# Altium schematic symbol library Resisotors.SchLib: 7 symbols
Pins are listed as number, name and electrical type; pins without a type are passive.

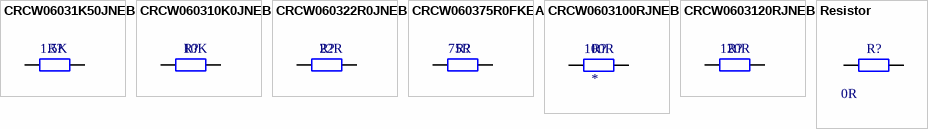
[diagram p0: symbols CRCW06031K50JNEB to Resistor]

## CRCW06031K50JNEB
designator R?  value 1.5K  (hidden comment: *)
RES 0603 1.5K 5% 100mW; Manufacturer: Vishay / Dale; Manufacturer Part Number: CRCW06031K50JNEB; Resistance: 1.5 kOhms; Temperature Coefficient: 200 PPM / K; Voltage Rating: 75 V; Qualification: Commercial; Supplier 1: Mouser; Supplier Part Number 1: 71-CRCW06031K50JNEB; RoHS: RoHS Compliant By Exemption; Category: Thick Film Resistors - SMD; Stock 1: 35392; Pricing 1: 1=0.091, 10=0.009, 100=0.007, 10000=0.003, 30000=0.002 (EUR); Height: 0.45 mm; Length: 1.55 mm; Operating Temperature Range: - 55 C to + 155 C; Package/Case: 0603 (1608 metric); Packaging: Reel; Power Rating: 100 mW; Product: Thick Film Resistors SMD; Series: CRCW; Termination Style: SMD/SMT; Tolerance: 5 %; Width: 0.85 mm; Brand: Vishay / Dale; Case Code - in: 0603; Case Code - mm: 1608; Standard Pack Qty: 10000; RoHS - Mouser: E; Minimum Order Quantity: 1; Reeling: True; ComponentLink1URL: http://www.mouser.com/ds/2/427/dcrcwe3-109170.pdf; ComponentLink1Description: http://www.mouser.com/ds/2/427/dcrcwe3-109170.pdf
footprint 0603R_0.45_L (Chip Resistor, 2-Leads, IPC Low Density)
footprint 0603R_0.45_M (Chip Resistor, 2-Leads, IPC Medium Density)
footprint 0603R_0.45_H (Chip Resistor, 2-Leads, IPC Hight Density)
pins: 1, 2

## CRCW060310K0JNEB
designator R?  value 10K  (hidden comment: *)
RES 0603 10K 5% 100mW; Manufacturer: Vishay / Dale; Manufacturer Part Number: CRCW060310K0JNEB; Resistance: 10 kOhms; Temperature Coefficient: 200 PPM / K; Voltage Rating: 75 V; Qualification: Commercial; Supplier 1: Mouser; Supplier Part Number 1: 71-CRCW060310K0JNEB; RoHS: RoHS Compliant By Exemption; Category: Thick Film Resistors - SMD; Stock 1: 23952; Pricing 1: 1=0.091, 10=0.009, 100=0.007, 10000=0.003, 30000=0.002 (EUR); Height: 0.45 mm; Length: 1.55 mm; Operating Temperature Range: - 55 C to + 155 C; Package/Case: 0603 (1608 metric); Packaging: Reel; Power Rating: 100 mW; Product: Thick Film Resistors SMD; Series: CRCW; Termination Style: SMD/SMT; Tolerance: 5 %; Width: 0.85 mm; Brand: Vishay / Dale; Case Code - in: 0603; Case Code - mm: 1608; Standard Pack Qty: 10000; RoHS - Mouser: E; Minimum Order Quantity: 1; Reeling: True; ComponentLink1URL: http://www.mouser.com/ds/2/427/dcrcwe3-109170.pdf; ComponentLink1Description: http://www.mouser.com/ds/2/427/dcrcwe3-109170.pdf
footprint 0603R_0.45_L (Chip Resistor, 2-Leads, IPC Low Density)
footprint 0603R_0.45_M (Chip Resistor, 2-Leads, IPC Medium Density)
footprint 0603R_0.45_H (Chip Resistor, 2-Leads, IPC Hight Density)
pins: 1, 2

## CRCW060322R0JNEB
designator R?  value 22R  (hidden comment: *)
RES 0603 22R 5% 100mW; Manufacturer: Vishay / Dale; Manufacturer Part Number: CRCW060322R0JNEB; Resistance: 22 Ohms; Temperature Coefficient: 200 PPM / K; Voltage Rating: 75 V; Qualification: Commercial; Supplier 1: Mouser; Supplier Part Number 1: 71-CRCW060322R0JNEB; RoHS: RoHS Compliant By Exemption; Category: Thick Film Resistors - SMD; Stock 1: 41125; Pricing 1: 1=0.091, 10=0.011, 100=0.008, 10000=0.004, 30000=0.002 (EUR); Height: 0.45 mm; Length: 1.55 mm; Operating Temperature Range: - 55 C to + 155 C; Package/Case: 0603 (1608 metric); Packaging: Reel; Power Rating: 100 mW; Product: Thick Film Resistors SMD; Series: CRCW; Termination Style: SMD/SMT; Tolerance: 5 %; Width: 0.85 mm; Brand: Vishay / Dale; Case Code - in: 0603; Case Code - mm: 1608; Standard Pack Qty: 10000; RoHS - Mouser: E; Minimum Order Quantity: 1; Reeling: True; ComponentLink1URL: http://www.mouser.com/ds/2/427/dcrcwe3-109170.pdf; ComponentLink1Description: http://www.mouser.com/ds/2/427/dcrcwe3-109170.pdf
footprint 0603R_0.45_L (Chip Resistor, 2-Leads, IPC Low Density)
footprint 0603R_0.45_M (Chip Resistor, 2-Leads, IPC Medium Density)
footprint 0603R_0.45_H (Chip Resistor, 2-Leads, IPC Hight Density)
pins: 1, 2

## CRCW060375R0FKEA
designator R?  value 75R  (hidden comment: CRCW060375R0FKEA)
RES SMD 75 OHM 1% 1/10W 0603; Manufacturer: Vishay Dale; Resistance (Ohms): 75; Power (Watts): 0.1W, 1/10W; Temperature Coefficient: ±100ppm/°C; Supplier 1: Digi-Key; Supplier Part Number 1: 541-75.0HCT-ND; Manufacturer Part Number: CRCW060375R0FKEA; RoHS: RoHS Compliant; Category: Resistors; Stock 1: 102359; Pricing 1: 1=0.1, 10=0.03, 25=0.022, 50=0.0168, 100=0.0123, 250=0.0094, 500=0.00752, 1000=0.00554, 2500=0.00481 (USD); Packaging: Cut Tape (CT); Part Status: Active; Tolerance: ±1%; Composition: Thick Film; Features: Automotive AEC-Q200; Operating Temperature: -55°C ~ 155°C; Package / Case: 0603 (1608 Metric); Supplier Device Package: 0603; Size / Dimension: 0.063" L x 0.033" W (1.60mm x 0.85mm); Height - Seated (Max): 0.020" (0.50mm); Number of Terminations: 2; Failure Rate: -; ComponentLink1URL: http://www.vishay.com/docs/20035/dcrcwe3.pdf; ComponentLink1Description: http://www.vishay.com/docs/20035/dcrcwe3.pdf
footprint 0603R_0.45_L (Chip Resistor, 2-Leads, IPC Low Density)
footprint 0603R_0.45_M (Chip Resistor, 2-Leads, IPC Medium Density)
footprint 0603R_0.45_H (Chip Resistor, 2-Leads, IPC Hight Density)
pins: 1, 2

## CRCW0603100RJNEB
designator R?  value 100R
RES 0603 100R 5% 100mW; Manufacturer: Vishay / Dale; Manufacturer Part Number: CRCW0603100RJNEB; Resistance: 100 Ohms; Temperature Coefficient: 200 PPM / K; Voltage Rating: 75 V; Qualification: Commercial; Supplier 1: Mouser; Supplier Part Number 1: 71-CRCW0603100RJNEB; RoHS: RoHS Compliant By Exemption; Category: Thick Film Resistors - SMD; Stock 1: 27634; Pricing 1: 1=0.091, 10=0.009, 100=0.007, 1000=0.005, 10000=0.003, 30000=0.002 (EUR); Height: 0.45 mm; Length: 1.55 mm; Operating Temperature Range: - 55 C to + 155 C; Package/Case: 0603 (1608 metric); Packaging: Reel; Power Rating: 100 mW; Product: Thick Film Resistors SMD; Series: CRCW; Termination Style: SMD/SMT; Tolerance: 5 %; Width: 0.85 mm; Brand: Vishay / Dale; Case Code - in: 0603; Case Code - mm: 1608; Standard Pack Qty: 10000; RoHS - Mouser: E; Minimum Order Quantity: 1; Reeling: True; ComponentLink1URL: http://www.mouser.com/ds/2/427/dcrcwe3-109170.pdf; ComponentLink1Description: http://www.mouser.com/ds/2/427/dcrcwe3-109170.pdf
footprint 0603R_0.45_L (Chip Resistor, 2-Leads, IPC Low Density)
footprint 0603R_0.45_M (Chip Resistor, 2-Leads, IPC Medium Density)
footprint 0603R_0.45_H (Chip Resistor, 2-Leads, IPC Hight Density)
pins: 1, 2

## CRCW0603120RJNEB
designator R?  value 120R  (hidden comment: *)
RES 0603 120R 5% 100mW; Manufacturer: Vishay / Dale; Manufacturer Part Number: CRCW0603120RJNEB; Resistance: 120 Ohms; Temperature Coefficient: 200 PPM / K; Voltage Rating: 75 V; Qualification: Commercial; Supplier 1: Mouser; Supplier Part Number 1: 71-CRCW0603120RJNEB; RoHS: RoHS Compliant By Exemption; Category: Thick Film Resistors - SMD; Stock 1: 61795; Pricing 1: 1=0.091, 10=0.009, 100=0.007, 10000=0.003, 30000=0.002 (EUR); Height: 0.45 mm; Length: 1.55 mm; Operating Temperature Range: - 55 C to + 155 C; Package/Case: 0603 (1608 metric); Packaging: Reel; Power Rating: 100 mW; Product: Thick Film Resistors SMD; Series: CRCW; Termination Style: SMD/SMT; Tolerance: 5 %; Width: 0.85 mm; Brand: Vishay / Dale; Case Code - in: 0603; Case Code - mm: 1608; Standard Pack Qty: 10000; RoHS - Mouser: E; Minimum Order Quantity: 1; Reeling: True; ComponentLink1URL: http://www.mouser.com/ds/2/427/dcrcwe3-109170.pdf; ComponentLink1Description: http://www.mouser.com/ds/2/427/dcrcwe3-109170.pdf
footprint 0603R_0.45_L (Chip Resistor, 2-Leads, IPC Low Density)
footprint 0603R_0.45_M (Chip Resistor, 2-Leads, IPC Medium Density)
footprint 0603R_0.45_H (Chip Resistor, 2-Leads, IPC Hight Density)
pins: 1, 2

## Resistor
designator R?, comment value 0R  (hidden comment: Generic resitor)
footprint 0603R_0.45_L (Chip Resistor, 2-Leads, IPC Low Density)
footprint 0603R_0.45_M (Chip Resistor, 2-Leads, IPC Medium Density)
footprint 0603R_0.45_H (Chip Resistor, 2-Leads, IPC Hight Density)
pins: 1, 2